# Altium footprint library first-pcb-project.PcbLib: 15 footprints
Each footprint in its own frame and in the unit in brackets; x right, y up, seen from the top. Pads: shape width x height; smd on the part's side, far side on the other; paste and mask are expansions set on the pad; w line width, h text height; cw(c..) or ccw(c..) is an arc to the next point about the centre after c.
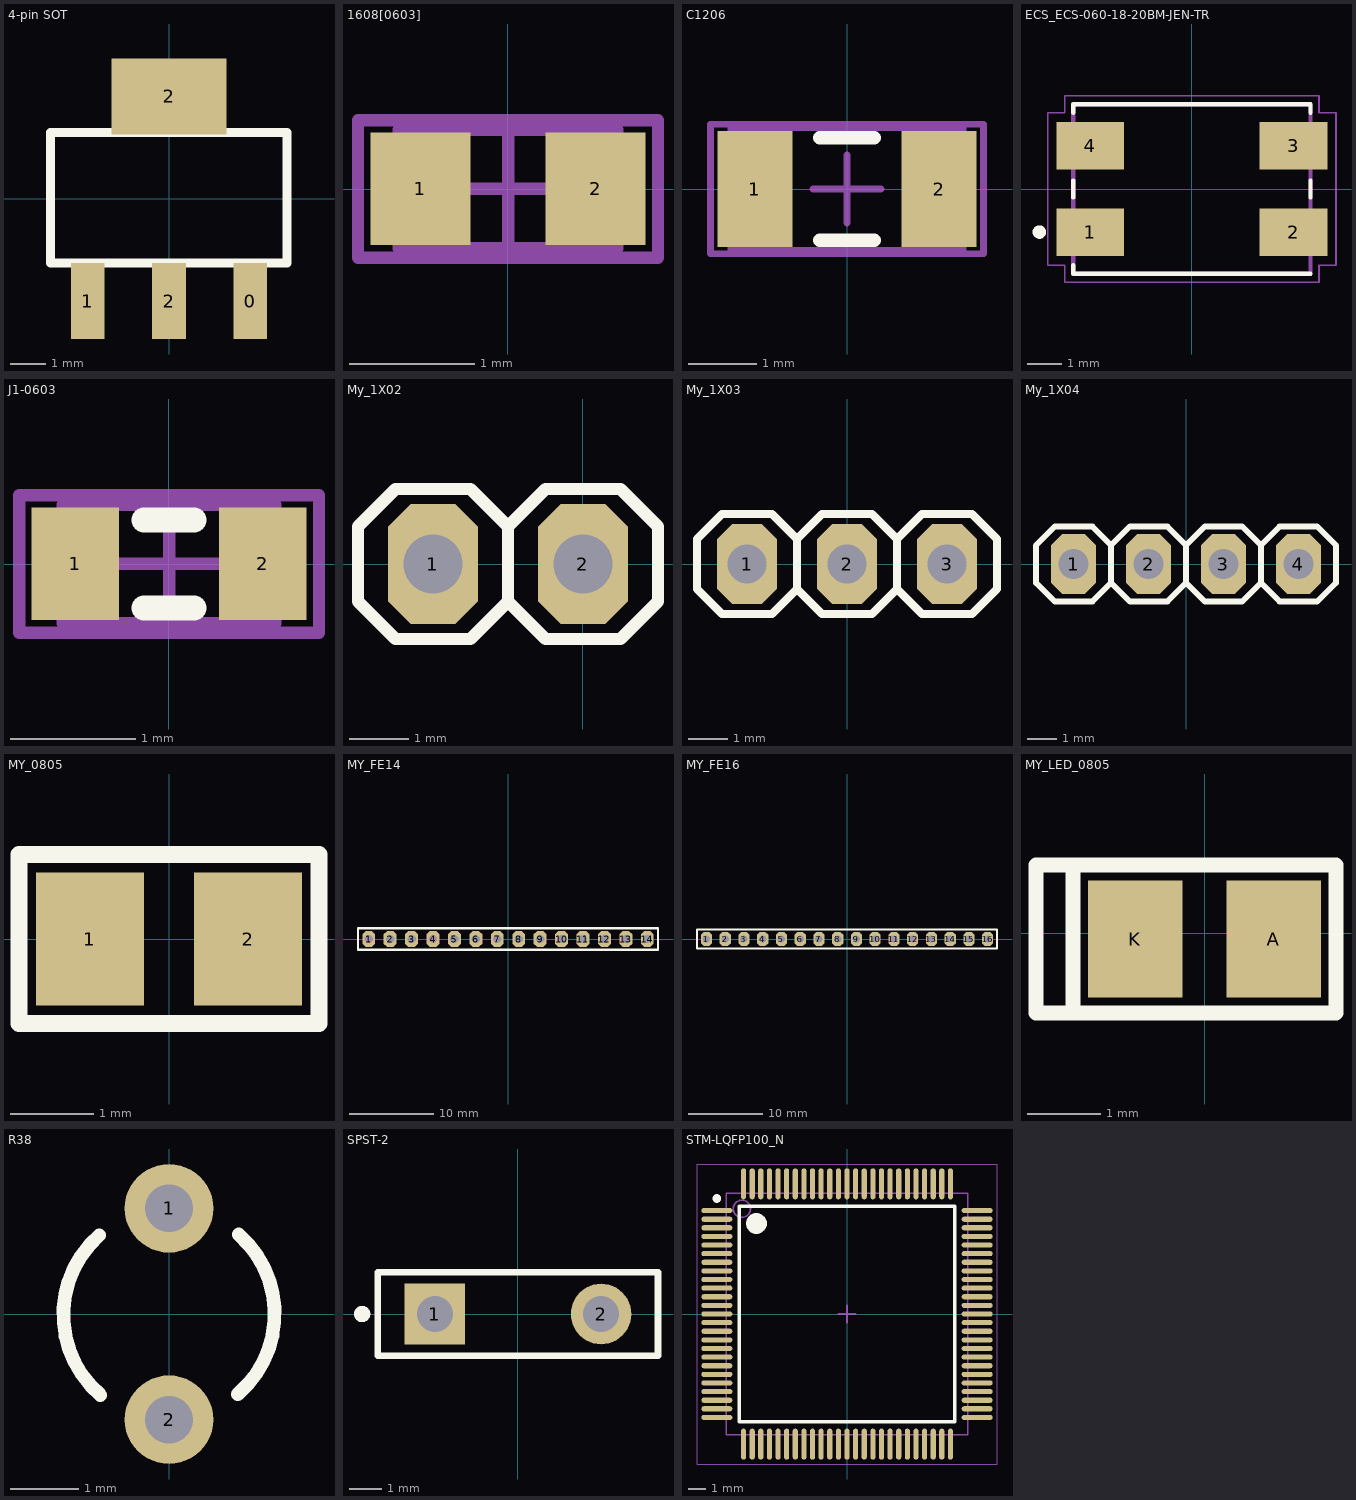
[diagram p0: the footprints below, top view; thin cyan lines are the x and y axes]

## 4-pin SOT [mm]
pads (4):
  rect 0.95x2.15 smd: 0(2.3,-2.9) 1(-2.3,-2.9) 2(0,-2.9)
  rect 3.25x2.15 smd: 2(0,2.9)
Top Overlay:
  lines w0.254: -3.353,-1.824 -3.353,1.876 3.347,1.876 3.347,-1.824 -3.353,-1.824
3D body "User Library-SOT233.step": height 1.64, standoff -0.06, extent -3.35,-3.65 3.35,3.65

## 1608[0603] [mm]
pads (2):
  rect 0.8x0.9 smd: 1(-0.7,0) 2(0.7,0)
Mechanical 13:
  lines w0.1: -0.875,-0.475 -0.875,0.475 0.875,0.475 0.875,-0.475 -0.875,-0.475
Mechanical 15:
  lines w0.1: -0.475,0 0.475,0 ; 0,-0.475 0,0.475 ; -1.2,-0.55 -1.2,0.55 1.2,0.55 1.2,-0.55 -1.2,-0.55
3D body: height 1.3, standoff 0, extent -0.875,-0.475 0.875,0.475

## C1206 [mm]
pads (2):
  rect 1.1x1.7 smd: 1(-1.35,0) 2(1.35,0)
Top Overlay:
  lines w0.2: -0.4,-0.75 0.4,-0.75 ; -0.4,0.75 0.4,0.75
Mechanical 13:
  lines w0.1: -1.7,-0.9 -1.7,0.9 1.7,0.9 1.7,-0.9 -1.7,-0.9
Mechanical 15:
  lines w0.1: -0.5,0 0.5,0 ; 0,-0.5 0,0.5 ; -2,-0.95 -2,0.95 2,0.95 2,-0.95 -2,-0.95
3D body: height 1.3, standoff 0, extent -1.7,-0.9 1.7,0.9

## ECS_ECS-060-18-20BM-JEN-TR [mm]
pads (4):
  rect 2x1.4 smd: 1(-3,-1.27) 2(3,-1.27) 3(3,1.27) 4(-3,1.27)
Top Overlay:
  circle w0.2: c-4.5,-1.27 r0.1
  lines w0.127: -3.5,-2.25 -3.5,-2.5 3.5,-2.5 ; -3.5,-0.25 -3.5,0.25 ; -3.5,2.25 -3.5,2.5 3.5,2.5 3.5,2.25 ; 3.5,-0.25 3.5,0.25
Mechanical 13:
  lines w0.127: -3.5,-2.5 -3.5,2.5 3.5,2.5 3.5,-2.5 -3.5,-2.5
Mechanical 15:
  lines w0.05: -4.25,-2.25 -4.25,2.25 -3.75,2.25 -3.75,2.75 3.75,2.75 3.75,2.25 4.25,2.25 4.25,-2.25 3.75,-2.25 3.75,-2.75 -3.75,-2.75 -3.75,-2.25 -4.25,-2.25
3D body "step_temp.STEP": height 1.3, standoff 0, extent -3.5,-2.5 3.5,2.5

## J1-0603 [mm]
pads (2):
  rect 0.7x0.9 smd: 1(-0.75,0) 2(0.75,0)
Top Overlay:
  lines w0.2: -0.2,-0.35 0.2,-0.35 ; -0.2,0.35 0.2,0.35
Mechanical 13:
  lines w0.1: -0.85,-0.475 -0.85,0.475 0.85,0.475 0.85,-0.475 -0.85,-0.475
Mechanical 15:
  lines w0.1: -0.475,0 0.475,0 ; 0,-0.475 0,0.475 ; -1.2,-0.55 -1.2,0.55 1.2,0.55 1.2,-0.55 -1.2,-0.55
3D body: height 0.9, standoff 0, extent -0.85,-0.475 0.85,0.475

## My_1X02 [mil]
pads (2):
  oct 60x80 hole 39.37: 1(-100,0) 2(0,0)
Top Overlay:
  lines w8: -50,-25 -50,25 ; -50,-25 -75,-50 -125,-50 -150,-25 -150,25 -125,50 -75,50 -50,25 ; -50,-25 -25,-50 25,-50 50,-25 50,25 25,50 -25,50 -50,25
3D body "pin_header_aw140-eg-g02d.stp": height 323.43, standoff -117.51, extent -150,-51.21 46.07,47.22

## My_1X03 [mil]
pads (3):
  oct 60x80 hole 39.37: 1(-100,0) 2(0,0) 3(100,0)
Top Overlay:
  lines w8: -50,-25 -25,-50 25,-50 50,-25 ; -50,-25 -75,-50 -125,-50 -150,-25 -150,25 -125,50 -75,50 -50,25 ; -50,-25 -50,25 ; -50,25 -25,50 25,50 50,25 ; 50,-25 75,-50 125,-50 150,-25 150,25 125,50 75,50 50,25 ; 50,-25 50,25
3D body "pin_header_aw140-eg-g03d.stp": height 323.43, standoff -117.51, extent -149.03,-49.42 147.04,49

## My_1X04 [mil]
pads (4):
  oct 60x80 hole 39.37: 1(-150,0) 2(-50,0) 3(50,0) 4(150,0)
Top Overlay:
  lines w8: -100,-25 -100,25 ; -100,-25 -125,-50 -175,-50 -200,-25 -200,25 -175,50 -125,50 -100,25 ; -100,-25 -75,-50 -25,-50 0,-25 ; -100,25 -75,50 -25,50 0,25 ; 0,-25 25,-50 75,-50 100,-25 ; 0,-25 0,25 ; 0,25 25,50 75,50 100,25 ; 100,-25 100,25 ; 100,-25 125,-50 175,-50 200,-25 200,25 175,50 125,50 100,25
3D body "pin_header_aw140-eg-g04d.stp": height 323.43, standoff -117.52, extent -199.99,-49.21 196.07,49.22

## MY_0805 [mm]
pads (2):
  rect 1.3x1.6 smd: 1(-0.95,0) 2(0.95,0)
Top Overlay:
  lines w0.203: -1.803,-1.016 -1.803,1.016 1.803,1.016 1.803,-1.016 -1.803,-1.016
3D body "User Library-SMD RESISTOR-1.STEP": height 0.59, standoff -0.01, extent -1,-0.625 1,0.625

## MY_FE14 [mm]
pads (14):
  oct 1.524x1.905 hole 1: 1(-16.51,0) 2(-13.97,0) 3(-11.43,0) 4(-8.89,0) 5(-6.35,0) 6(-3.81,0) 7(-1.27,0) 8(1.27,0) 9(3.81,0) 10(6.35,0) 11(8.89,0) 12(11.43,0) 13(13.97,0) 14(16.51,0)
Top Overlay:
  lines w0.254: -15.748,-1.27 17.78,-1.27 17.78,1.27 15.494,1.27 ; -15.494,-1.27 -17.78,-1.27 -17.78,1.27 15.875,1.27
3D body "female_header_a-bl254-eg-g14d.stp": height 8.5, standoff -3.2, extent -17.905,-1.25 17.905,1.25

## MY_FE16 [mm]
pads (16):
  oct 1.524x1.905 hole 1: 1(-19.05,0) 2(-16.51,0) 3(-13.97,0) 4(-11.43,0) 5(-8.89,0) 6(-6.35,0) 7(-3.81,0) 8(-1.27,0) 9(1.27,0) 10(3.81,0) 11(6.35,0) 12(8.89,0) 13(11.43,0) 14(13.97,0) 15(16.51,0) 16(19.05,0)
Top Overlay:
  lines w0.254: -18.288,-1.27 20.32,-1.27 20.32,1.27 18.034,1.27 ; -18.034,-1.27 -20.32,-1.27 -20.32,1.27 19.685,1.27
3D body "female_header_a-bl254-eg-g16d.stp": height 8.5, standoff -3.2, extent -20.445,-1.25 20.445,1.25

## MY_LED_0805 [mm]
pads (2):
  rect 1.3x1.6 smd: A(0.95,-0.076) K(-0.95,-0.076)
Top Overlay:
  lines w0.203: -2.311,0.94 -2.311,-1.092 -1.803,-1.092 ; -2.286,0.94 -1.803,0.94 ; -1.803,-1.092 1.803,-1.092 1.803,0.94 -1.803,0.94 ; -1.803,-1.092 -1.803,0.94
3D body "SW3dPS-LED SMD0805.STEP": height 0.86, standoff 0.01, extent -1.057,-0.483 1.006,0.424

## R38 [mm]
pads (2):
  round 1.3 hole 0.7: 1(0,1.55) 2(0,-1.55)
Top Overlay:
  lines w0.2: -1.022,1.155 ccw(c0,-0.01) -1.006,-1.189 ; 1.006,-1.179 ccw(c0,0) 1.022,1.165

## SPST-2 [mm]
pads (2):
  rect 1.85x1.85 hole 1.1: 1(-2.54,0)
  round 1.85 hole 1.1: 2(2.54,0)
Top Overlay:
  circle w0.25: c-4.761,-0.001 r0.125
  lines w0.2: -4.28,-1.27 4.28,-1.27 4.28,1.27 -4.28,1.27 -4.28,-1.27

## STM-LQFP100_N [mm]
pads (100):
  oval 1.8x0.3 smd: 1(-7.55,6) 2(-7.55,5.5) 3(-7.55,5) 4(-7.55,4.5) 5(-7.55,4) 6(-7.55,3.5) 7(-7.55,3) 8(-7.55,2.5) 9(-7.55,2) 10(-7.55,1.5) 11(-7.55,1) 12(-7.55,0.5) 13(-7.55,0) 14(-7.55,-0.5) 15(-7.55,-1) 16(-7.55,-1.5) 17(-7.55,-2) 18(-7.55,-2.5) 19(-7.55,-3) 20(-7.55,-3.5) 21(-7.55,-4) 22(-7.55,-4.5) 23(-7.55,-5) 24(-7.55,-5.5) 25(-7.55,-6) 51(7.55,-6) 52(7.55,-5.5) 53(7.55,-5) 54(7.55,-4.5) 55(7.55,-4) 56(7.55,-3.5) 57(7.55,-3) 58(7.55,-2.5) 59(7.55,-2) 60(7.55,-1.5) 61(7.55,-1) 62(7.55,-0.5) 63(7.55,0) 64(7.55,0.5) 65(7.55,1) 66(7.55,1.5) 67(7.55,2) 68(7.55,2.5) 69(7.55,3) 70(7.55,3.5) 71(7.55,4) 72(7.55,4.5) 73(7.55,5) 74(7.55,5.5) 75(7.55,6)
  oval 0.3x1.8 smd: 26(-6,-7.55) 27(-5.5,-7.55) 28(-5,-7.55) 29(-4.5,-7.55) 30(-4,-7.55) 31(-3.5,-7.55) 32(-3,-7.55) 33(-2.5,-7.55) 34(-2,-7.55) 35(-1.5,-7.55) 36(-1,-7.55) 37(-0.5,-7.55) 38(0,-7.55) 39(0.5,-7.55) 40(1,-7.55) 41(1.5,-7.55) 42(2,-7.55) 43(2.5,-7.55) 44(3,-7.55) 45(3.5,-7.55) 46(4,-7.55) 47(4.5,-7.55) 48(5,-7.55) 49(5.5,-7.55) 50(6,-7.55) 76(6,7.55) 77(5.5,7.55) 78(5,7.55) 79(4.5,7.55) 80(4,7.55) 81(3.5,7.55) 82(3,7.55) 83(2.5,7.55) 84(2,7.55) 85(1.5,7.55) 86(1,7.55) 87(0.5,7.55) 88(0,7.55) 89(-0.5,7.55) 90(-1,7.55) 91(-1.5,7.55) 92(-2,7.55) 93(-2.5,7.55) 94(-3,7.55) 95(-3.5,7.55) 96(-4,7.55) 97(-4.5,7.55) 98(-5,7.55) 99(-5.5,7.55) 100(-6,7.55)
Top Overlay:
  circle w0.25: c-7.55,6.7 r0.125
  circle w0.6: c-5.25,5.25 r0.3
  lines w0.2: -6.25,-6.25 -6.25,6.25 6.25,6.25 6.25,-6.25 -6.25,-6.25
Mechanical 13:
  circle w0.1: c-6.1,6.1 r0.5
  lines w0.1: -7,-7 -7,7 7,7 7,-7 -7,-7
Mechanical 15:
  lines w0.05: -8.7,-8.7 -8.7,8.7 8.7,8.7 8.7,-8.7 -8.7,-8.7
  lines w0.1: -0.5,0 0.5,0 ; 0,-0.5 0,0.5